# EAGLE library part PIC16F194* (library matriLedWatch)
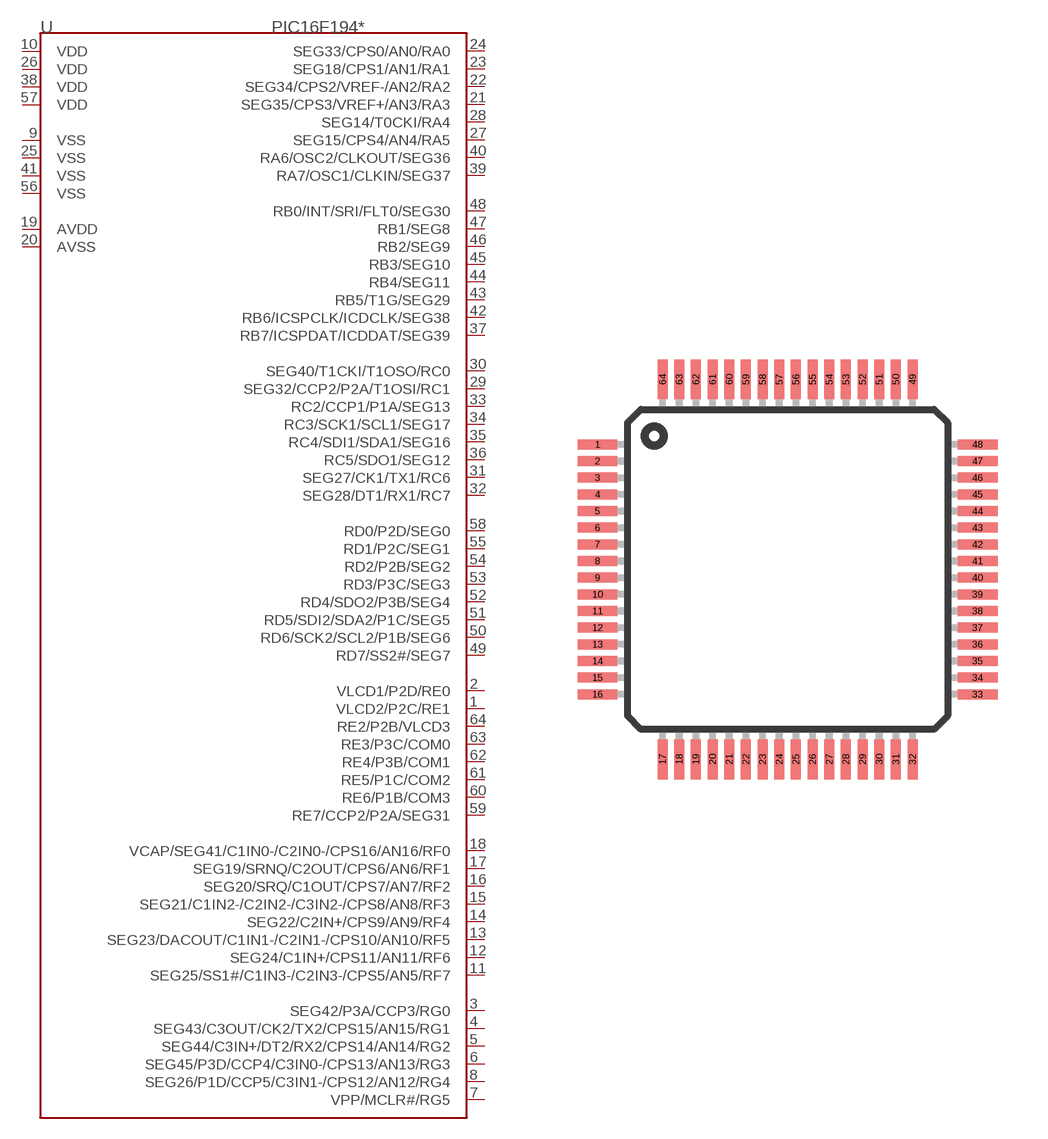
[diagram p3: symbol with the pads of TQFP64-10X10; footprint TQFP64-10X10]

Designator prefix U

## PIC16F1946-I/PT, PIC16F1947-I/PT  [TQFP64-10X10]
1  VLCD2/P2C/RE1
2  VLCD1/P2D/RE0
3  SEG42/P3A/CCP3/RG0
4  SEG43/C3OUT/CK2/TX2/CPS15/AN15/RG1
5  SEG44/C3IN+/DT2/RX2/CPS14/AN14/RG2
6  SEG45/P3D/CCP4/C3IN0-/CPS13/AN13/RG3
7  VPP/MCLR#/RG5
8  SEG26/P1D/CCP5/C3IN1-/CPS12/AN12/RG4
9  VSS
10  VDD
11  SEG25/SS1#/C1IN3-/C2IN3-/CPS5/AN5/RF7
12  SEG24/C1IN+/CPS11/AN11/RF6
13  SEG23/DACOUT/C1IN1-/C2IN1-/CPS10/AN10/RF5
14  SEG22/C2IN+/CPS9/AN9/RF4
15  SEG21/C1IN2-/C2IN2-/C3IN2-/CPS8/AN8/RF3
16  SEG20/SRQ/C1OUT/CPS7/AN7/RF2
17  SEG19/SRNQ/C2OUT/CPS6/AN6/RF1
18  VCAP/SEG41/C1IN0-/C2IN0-/CPS16/AN16/RF0
19  AVDD
20  AVSS
21  SEG35/CPS3/VREF+/AN3/RA3
22  SEG34/CPS2/VREF-/AN2/RA2
23  SEG18/CPS1/AN1/RA1
24  SEG33/CPS0/AN0/RA0
25  VSS
26  VDD
27  SEG15/CPS4/AN4/RA5
28  SEG14/T0CKI/RA4
29  SEG32/CCP2/P2A/T1OSI/RC1
30  SEG40/T1CKI/T1OSO/RC0
31  SEG27/CK1/TX1/RC6
32  SEG28/DT1/RX1/RC7
33  RC2/CCP1/P1A/SEG13
34  RC3/SCK1/SCL1/SEG17
35  RC4/SDI1/SDA1/SEG16
36  RC5/SDO1/SEG12
37  RB7/ICSPDAT/ICDDAT/SEG39
38  VDD
39  RA7/OSC1/CLKIN/SEG37
40  RA6/OSC2/CLKOUT/SEG36
41  VSS
42  RB6/ICSPCLK/ICDCLK/SEG38
43  RB5/T1G/SEG29
44  RB4/SEG11
45  RB3/SEG10
46  RB2/SEG9
47  RB1/SEG8
48  RB0/INT/SRI/FLT0/SEG30
49  RD7/SS2#/SEG7
50  RD6/SCK2/SCL2/P1B/SEG6
51  RD5/SDI2/SDA2/P1C/SEG5
52  RD4/SDO2/P3B/SEG4
53  RD3/P3C/SEG3
54  RD2/P2B/SEG2
55  RD1/P2C/SEG1
56  VSS
57  VDD
58  RD0/P2D/SEG0
59  RE7/CCP2/P2A/SEG31
60  RE6/P1B/COM3
61  RE5/P1C/COM2
62  RE4/P3B/COM1
63  RE3/P3C/COM0
64  RE2/P2B/VLCD3

## Footprint TQFP64-10X10 (pad centres in mm)
Thin Quad Flat Pack package type TQ
smd 1.2 x 0.3: 1 -5.7,3.75; 2 -5.7,3.25; 3 -5.7,2.75; 4 -5.7,2.25; 5 -5.7,1.75; 6 -5.7,1.25; 7 -5.7,0.75; 8 -5.7,0.25; 9 -5.7,-0.25; 10 -5.7,-0.75; 11 -5.7,-1.25; 12 -5.7,-1.75; 13 -5.7,-2.25; 14 -5.7,-2.75; 15 -5.7,-3.25; 16 -5.7,-3.75; 33 5.7,-3.75; 34 5.7,-3.25; 35 5.7,-2.75; 36 5.7,-2.25; 37 5.7,-1.75; 38 5.7,-1.25; 39 5.7,-0.75; 40 5.7,-0.25; 41 5.7,0.25; 42 5.7,0.75; 43 5.7,1.25; 44 5.7,1.75; 45 5.7,2.25; 46 5.7,2.75; 47 5.7,3.25; 48 5.7,3.75
smd 0.3 x 1.2: 17 -3.75,-5.7; 18 -3.25,-5.7; 19 -2.75,-5.7; 20 -2.25,-5.7; 21 -1.75,-5.7; 22 -1.25,-5.7; 23 -0.75,-5.7; 24 -0.25,-5.7; 25 0.25,-5.7; 26 0.75,-5.7; 27 1.25,-5.7; 28 1.75,-5.7; 29 2.25,-5.7; 30 2.75,-5.7; 31 3.25,-5.7; 32 3.75,-5.7; 49 3.75,5.7; 50 3.25,5.7; 51 2.75,5.7; 52 2.25,5.7; 53 1.75,5.7; 54 1.25,5.7; 55 0.75,5.7; 56 0.25,5.7; 57 -0.25,5.7; 58 -0.75,5.7; 59 -1.25,5.7; 60 -1.75,5.7; 61 -2.25,5.7; 62 -2.75,5.7; 63 -3.25,5.7; 64 -3.75,5.7